# Altium schematic symbol library 1000uF 35V capacitor.SchLib: 1 symbol
Pins are listed as number, name and electrical type; pins without a type are passive.

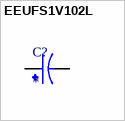
[diagram p0: symbol EEUFS1V102L]

## EEUFS1V102L
designator C?
1000ÂµF 35V Aluminum Electrolytic Capacitors Radial, Can 10000 Hrs @ 105Â°C; MP: EEUFS1V102L; MF: Panasonic; Package: RADIAL-2 Panasonic; SnapEDA_Link: https://www.snapeda.com/parts/EEUFS1V102L/Panasonic/view-part/?ref=snap; Value: *; Check_prices: https://www.snapeda.com/parts/EEUFS1V102L/Panasonic/view-part/?ref=eda; Availability: In Stock; Purchase-URL: https://pricing.snapeda.com/search/part/EEUFS1V102L/?ref=eda; Price: None
footprint CAPPRD500W60D1000H2500
pins: N, P